# Altium schematic symbol library Schematic-Lib-KEM.SchLib: 13 symbols
Pins are listed as number, name and electrical type; pins without a type are passive.

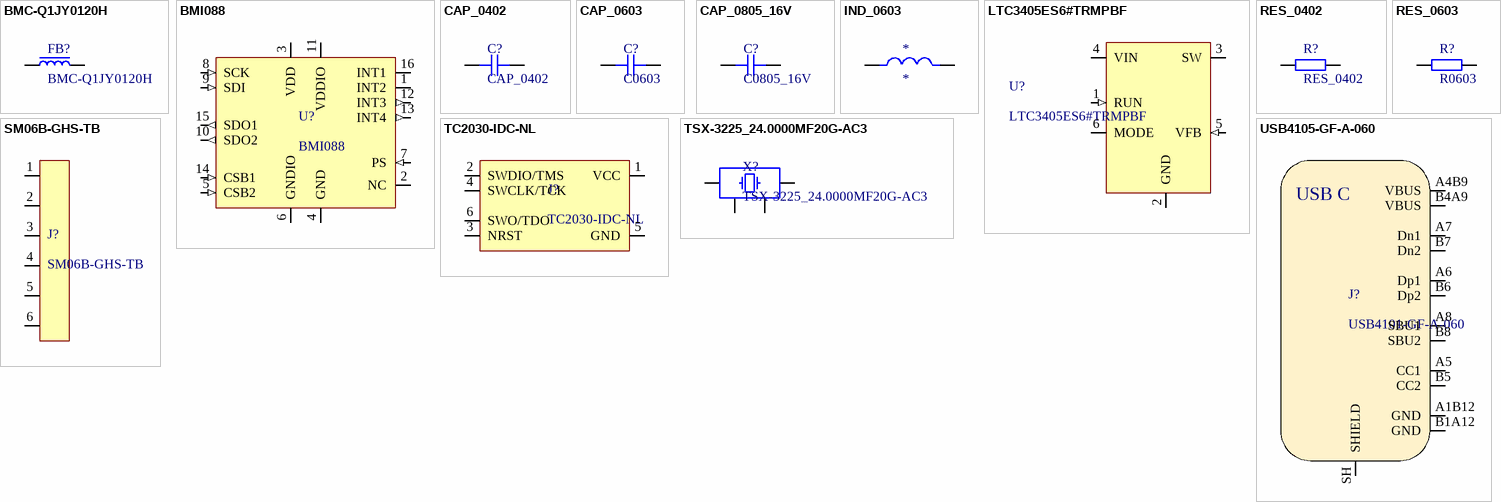
[diagram p0: symbols BMC-Q1JY0120H to USB4105-GF-A-060]

## BMC-Q1JY0120H
designator FB?
Ferrite Beads BMC-Q 0603 120R 25% Tol. High Current; Manufacturer: Bourns; Impedance Value: 120 Ohm @ 100MHz; Rated Current: 1A; DC Resistance: 0.15 Ohm; Manufacturer Part Number: BMC-Q1JY0120H; Package: 0603; Supplier Link: https://eu.mouser.com/ProductDetail/TE-Connectivity-Sigma-Inductors/BMC-Q1JY0120H?qs=sGAEpiMZZMt1hubY80%2Fs8KH3ycnB7WcGc%2FcSUtObKOLmj4JvfvR2Cw%3D%3D
footprint FB_0603
pins: 1, 2

## BMI088
designator U?
Inertial Measurement Unit (IMU) 6-axis 16bit; Manufacturer: Bosch; Manufacturer Part Number: BMI088; Distributor link: https://eu.mouser.com/ProductDetail/Bosch-Sensortec/BMI088?qs=f9yNj16SXrIMFspTV6RB6Q%3D%3D
footprint BMI088
pins: 1 INT2 (io), 2 NC, 3 VDD (power), 4 GND (power), 5 CSB2 (in), 6 GNDIO (power), 7 PS (in), 8 SCK (in), 9 SDI (in), 10 SDO2 (out), 11 VDDIO (power), 12 INT3 (out), 13 INT4 (out), 14 CSB1 (in), 15 SDO1 (out), 16 INT1 (io)

## CAP_0402
designator C?
Capacitor SMD 0402 Generic; Manufacturer: *; Manufacturer Part Number: *; Tolerance: *; Voltage Rating: *; Dielectric: *
footprint CAP_0402 (Chip Capacitor, 2-Leads, Body 1.00x0.50mm, IPC Medium Density)
pins: 1, 2

## CAP_0603
designator C?, comment C0603
Capaictor SMD 0603 Generic; Manufacturer: *; Manufacturer Part Number: *; Tolerance: *; Voltage Rating: *; Dielectric: *
footprint CAP_0603 (Chip Capacitor, 2-Leads, Body 1.60x0.80mm, IPC Medium Density)
pins: 1, 2

## CAP_0805_16V
designator C?, comment C0805_16V
Capacitor SMD 0805 Generic; Manufacturer: *; Manufacturer Part Number: *; Tolerance: *; Voltage Rating: *; Dielectric: *
footprint CAP_0805 (Chip Capacitor, 2-Leads, Body 2.00x1.25mm, IPC Medium Density)
pins: 1, 2

## IND_0603
designator *
Parameter 1: *
footprint IND_0603 (Chip Inductor, 2-Leads, Body 1.60x0.80mm, IPC Medium Density)
pins: 1, 2

## LTC3405ES6#TRMPBF
designator U?
1.5MHz, 300mA Synchronous Step-Down Regulator in ThinSOT; Manufacturer: Analog Devices; Panufacturer Part Number: LTC3405ES6#TRMPBF
footprint SOT-23-6 (SOT23, 6-Leads, Body 2.90x2.45mm, Pitch 0.95mm, IPC Medium Density)
pins: 1 RUN (in), 2 GND (power), 3 SW (power), 4 VIN (power), 5 VFB (in), 6 MODE

## RES_0402
designator R?
Resistor SMD 0402 Generic; Manufacturer: *; Manufacturer Part Number: *; Tolerance: *; Package Size: *; Voltage Rating: *
footprint RES_0402 (Chip Resistor, 2-Leads, Body 1.00x0.50mm, IPC Medium Density)
pins: 1, 2

## RES_0603
designator R?, comment R0603
Resistor SMD 0603 Generic; Manufacturer: *; Manufacturer Part Number: *; Tolerance: *; Package Size: *; Voltage Rating: *
footprint RES_0603 (Chip Resistor, 2-Leads, Body 1.60x0.80mm, IPC Medium Density)
pins: 1, 2

## SM06B-GHS-TB
designator J?
Header Connector 6 Position 1.25MM Pitch SMD Horizontal JST GH; Manufacturer: JST; Manufacturer Part Number: SM06B-GHS-TB; Distributor Link 1: https://www.digikey.co.uk/en/products/detail/jst-sales-america-inc/SM06B-GHS-TB/807790?srsltid=AfmBOopuWliyuZMmwFQasP26N8UGWQ-544t8Du2hpq1pUTE7HfB37_20; Distributor Link 2: https://eu.mouser.com/ProductDetail/JST-Commercial/SM06B-GHS-TBLFSN?qs=dbcCsuKDzFVtzW8gaymizQ==&srsltid=AfmBOopZ7IaGkbagz-tGgYVZR08OuGz3rY7I5JdStK1xvGH3CZodfjQn&_gl=1*1e23q4v*_ga*dW5kZWZpbmVk*_ga_15W4STQT4T*dW5kZWZpbmVk*_ga_1KQLCYKRX3*dW5kZWZpbmVk
footprint SM06B-GHS-TB (Header Connector 6 Position 1.25MM Pitch SMD Horizontal JST GH)
pins: 1, 2, 3, 4, 5, 6

## TC2030-IDC-NL
designator J?
Tag-Connect No-Solder SWD Debug Connector (No Legs); Manufactrer: Tag Connect; Manufacturer Part Number: TC2030-IDC-NL
footprint TC2030_NL
pins: 1 VCC, 2 SWDIO/TMS, 3 NRST, 4 SWCLK/TCK, 5 GND (power), 6 SWO/TDO

## TSX-3225_24.0000MF20G-AC3
designator X?
Crystal SMD 24MHz 10PPM 9pF; Manufacturer: Epson; Manufacturer Part Number: TSX-3225_24.0000MF20G-AC3; LCSC: *; Supplier Link: https://www.mouser.co.uk/ProductDetail/Epson-Timing/TSX-3225-24.0000MF20G-AC3?qs=tC2qD9afNgou1YHpctmuPA%3D%3D&srsltid=AfmBOoouiOfIznH0zW1dtqsynOn3XHi3SewUDh2izLsmfH-7_t8qZOyb
footprint XTAL_3225
pins: 1 X1, 2 GND (power), 3 X2, 4 GND (power)

## USB4105-GF-A-060
designator J?, comment USB4101-GF-A-060
USB connector Type C SMT 12 pin; Manufacturer: GCT; Manufacturer Part Number: USB4105-GF-A-060; Distributor Link: https://eu.mouser.com/ProductDetail/GCT/USB4105-GF-A-060?qs=QNEnbhJQKvY2mocwNJzgfA%3D%3D
footprint USB4105-GF-A-060
pins: A1B12 GND, A4B9 VBUS, A5 CC1, A6 Dp1, A7 Dn1, A8 SBU1, B1A12 GND, B4A9 VBUS, B5 CC2, B6 Dp2, B7 Dn2, B8 SBU2, SH SHIELD
text: USB C